# EAGLE library part ZXMHC6A07T8 (library tlcamera_rail_to_manufacture)
DES INC. - ZXMHC6A07T8TA - MOSFET, BRIDGE, SM8 Farnell <http://fi.farnell.com/diodes-inc/zxmhc6a07t8ta/mosfet-bridge-sm8/dp/7565020RL>
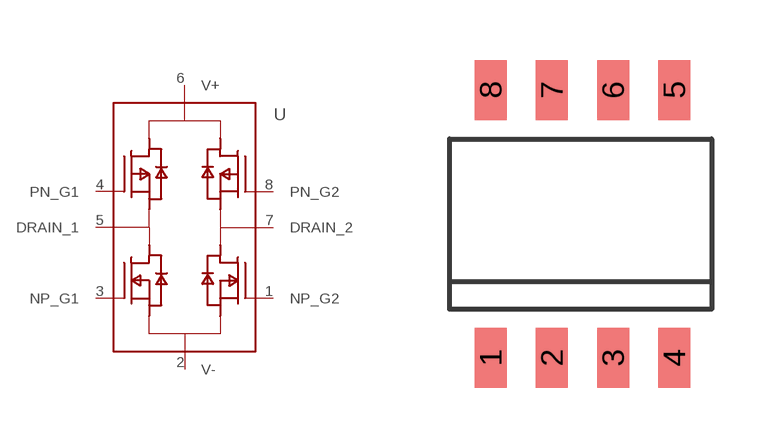
[diagram p7: symbol with the pads of ZXMHC6A07T8; footprint ZXMHC6A07T8]

Designator prefix -

## ZXMHC6A07T8  [ZXMHC6A07T8]
1  NP_G2
2  V-
3  NP_G1
4  PN_G1
5  DRAIN_1
6  V+
7  DRAIN_2
8  PN_G2

## Footprint ZXMHC6A07T8 (pad centres in mm)
smd 0.8 x 1.5: 1 0,-6.7; 2 1.53,-6.7; 3 3.06,-6.7; 4 4.59,-6.7; 5 4.59,0; 6 3.06,0; 7 1.53,0; 8 0,0